# EAGLE library part A2982 (library CyberRailGuru)
DRIVER ARRAY Source: Allegro Microsystems Inc. / A2982
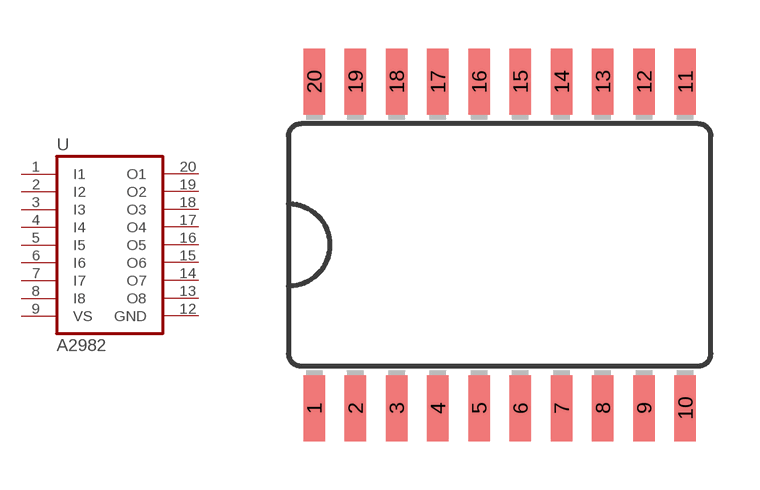
[diagram p10: symbol with the pads of SO20W; footprint SO20W]

Designator prefix U

## A2982LW  [SO20W]
1  I1  in
2  I2  in
3  I3  in
4  I4  in
5  I5  in
6  I6  in
7  I7  in
8  I8  in
9  VS  pas
12  GND  pwr
13  O8  oc
14  O7  oc
15  O6  oc
16  O5  oc
17  O4  oc
18  O3  oc
19  O2  oc
20  O1  oc

## Footprint SO20W (pad centres in mm)
Small Outline Package wide
smd 0.66 x 2.032: 1 -5.715,-5.029; 2 -4.445,-5.029; 3 -3.175,-5.029; 4 -1.905,-5.029; 5 -0.635,-5.029; 6 0.635,-5.029; 7 1.905,-5.029; 8 3.175,-5.029; 9 4.445,-5.029; 10 5.715,-5.029; 11 5.715,5.029; 12 4.445,5.029; 13 3.175,5.029; 14 1.905,5.029; 15 0.635,5.029; 16 -0.635,5.029; 17 -1.905,5.029; 18 -3.175,5.029; 19 -4.445,5.029; 20 -5.715,5.029